# Altium schematic symbol library miscelaneos.SchLib: 3 symbols
Pins are listed as number, name and electrical type; pins without a type are passive.

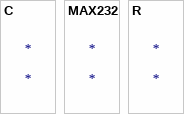
[diagram p0: symbols C to R]

## C
designator *

## MAX232
designator *

## R
designator *